# EAGLE library part SM09B-SSR-H-TB (library con-jst)
Disconnectable Insulation displacement connector, 1.0mm pitch 9 contacts
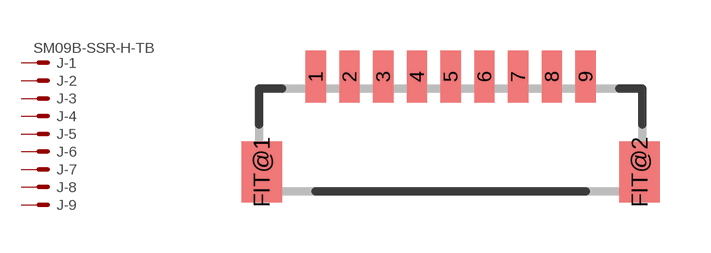
[diagram p35: symbol with the pads of SM09B-SSR-H-TB; footprint SM09B-SSR-H-TB]

Designator prefix J; gates -1=KV -2=K -3=K -4=K -5=K -6=K -7=K -8=K -9=K

## SM09B-SSR-H-TB  [SM09B-SSR-H-TB]
1  -1:S  pas
2  -2:S  pas
3  -3:S  pas
4  -4:S  pas
5  -5:S  pas
6  -6:S  pas
7  -7:S  pas
8  -8:S  pas
9  -9:S  pas

## Footprint SM09B-SSR-H-TB (pad centres in mm)
Shrouded Header
smd 0.6 x 1.55: 1 -4,1.925; 2 -3,1.925; 3 -2,1.925; 4 -1,1.925; 5 0,1.925; 6 1,1.925; 7 2,1.925; 8 3,1.925; 9 4,1.925
smd 1.2 x 1.8: FIT@1 -5.6,-0.9; FIT@2 5.6,-0.9